# EAGLE library part LL1571 (library lundahl)
LL1571 Transformer
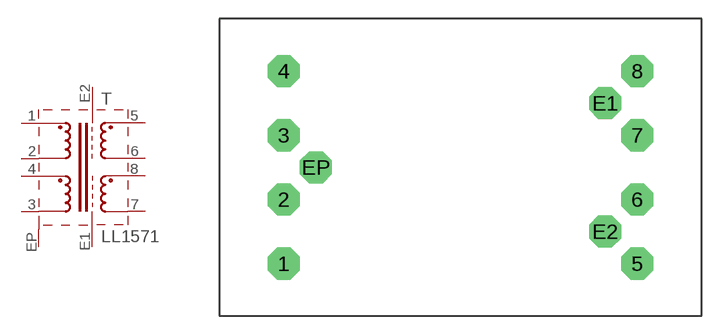
[diagram p5: symbol with the pads of LL1571; footprint LL1571]

Designator prefix T

## LL1571  [LL1571]
1  1  pas
2  2  pas
3  3  pas
4  4  pas
5  5  pas
6  6  pas
7  7  pas
8  8  pas
E1  E1  pas
E2  E2  pas
EP  EP  pas

## Footprint LL1571 (pad centres in mm)
LL1571
drill 1.27 pad 2.54 octagon: 1 -13.97,-7.62; 2 -13.97,-2.54; 3 -13.97,2.54; 4 -13.97,7.62; 5 13.97,-7.62; 6 13.97,-2.54; 7 13.97,2.54; 8 13.97,7.62; E1 11.43,5.08; E2 11.43,-5.08; EP -11.43,0